# Altium schematic symbol library transistor.SchLib: 9 symbols
Pins are listed as number, name and electrical type; pins without a type are passive.

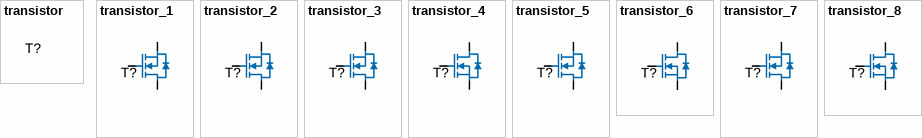
[diagram p0: symbols transistor to transistor_8]

## transistor
designator T?
Template

## transistor_1
designator T?
MOSFET, P-channel, -30V, -50A, 5.2mΩ, Power-Pak; Manufacturer 1: Vishay Siliconix; Manufacturer Part Number 1: SI7149ADP-T1-GE3; Supplier 1: Digi-Key; Supplier Part Number 1: SI7149ADP-T1-GE3CT-ND; Link: https://www.digikey.no/product-detail/en/vishay-siliconix/SI7149ADP-T1-GE3/SI7149ADP-T1-GE3CT-ND/4142092; Ids: -50A; Vds: -30V; Ron: 5.2mΩ
footprint SI7149ADP-T1-GE3
pins: D, G, S

## transistor_2
designator T?
MOSFET, P-channel, -20V, -22A, 6mΩ, Power-Pak; Manufacturer 1: Vishay Siliconix; Manufacturer Part Number 1: SISH615ADN-T1-GE3; Supplier 1: Digi-Key; Supplier Part Number 1: SISH615ADN-T1-GE3CT-ND; Link: https://www.digikey.no/product-detail/en/vishay-siliconix/SISH615ADN-T1-GE3/SISH615ADN-T1-GE3CT-ND/9695107; Ids: -22A; Vds: -20V; Ron: 6mΩ
footprint SISH615ADN-T1-GE3
pins: D, G, S

## transistor_3
designator T?
MOSFET, P-channel, -30V, -6A, 40mΩ, SOT32 Flat; Manufacturer 1: Toshiba Semiconductor and Storage; Manufacturer Part Number 1: SSM3J332R,LF; Supplier 1: Digi-Key; Supplier Part Number 1: SSM3J332RLFCT-ND; Link: https://www.digikey.no/product-detail/en/toshiba-semiconductor-and-storage/SSM3J332R-LF/SSM3J332RLFCT-ND/3522381; Ids: -6A; Vds: -30V; Ron: 40mΩ
footprint SSM3J332R,LF (SOTFL, 3-Leads, Body 2.90x2.40mm, Pitch 0.95mm, IPC Medium Density)
pins: D, G, S

## transistor_4
designator T?
MOSFET, N-channel, 50V, 500mA, 1.6Ω, SOT32 Flat; Manufacturer 1: Diodes Incorporated; Manufacturer Part Number 1: DMN53D0L-7; Supplier 1: Digi-Key; Supplier Part Number 1: DMN53D0L-7DICT-ND; Link: https://www.digikey.no/product-detail/en/diodes-incorporated/DMN53D0L-7/DMN53D0L-7DICT-ND/4935005; Ids: 500mA; Vds: 50V; Ron: 1.6Ω
footprint DMN53D0L-7 (SOT23, 3-Leads, Body 2.90x2.40mm, Pitch 0.92mm, IPC Medium Density)
pins: D, G, S

## transistor_5
designator T?
MOSFET, P-channel, -20V, -0.6A, 900mΩ, SOT32 Flat; Manufacturer 1: Diodes Incorporated; Manufacturer Part Number 1: DMP2004K-7; Ids: -6A; Vds: -30V; Ron: 40mΩ; Supplier 1: Digi-Key; Supplier Part Number 1: DMP2004KDITR-ND; Link: https://www.digikey.no/en/products/detail/diodes-incorporated/DMP2004K-7/1774201
footprint DMP2004K-7 (SOT23, 3-Leads, Body 2.90x2.40mm, Pitch 0.92mm, IPC Medium Density)
pins: D, G, S

## transistor_6
designator T?
MOSFET, N-channel, 60V, 115mA, 7.5Ω, SOT32; Manufacturer 1: Diodes Incorporated; Manufacturer Part Number 1: 2N7002W-7-F; Supplier 1: Digi-Key; Supplier Part Number 1: 2N7002W-FDITR-ND; Link: https://www.digikey.no/en/products/detail/diodes-incorporated/2N7002W-7-F/814962
footprint 2N7002W-7-F (SOT23, 3-Leads, Body 2.00x2.23mm, Pitch 0.65mm, IPC Medium Density)
pins: D, G, S

## transistor_7
designator T?
MOSFET, P-channel, -40V, -40A, 15mΩ, DPAK; Manufacturer 1: Alpha & Omega Semiconductor Inc.; Manufacturer Part Number 1: AOD4185; Supplier 1: Digi-Key; Supplier Part Number 1: 785-1222-6-ND; Link: https://www.digikey.no/en/products/detail/alpha-omega-semiconductor-inc/AOD4185/2353887; Ids: -40A; Vds: -40V; Ron: 15mΩ
footprint AOD4185
pins: D, G, S

## transistor_8
designator T?
MOSFET, N-channel, 55V, 2.1A, 160mΩ, SOT32; Manufacturer 1: Alpha & Omega Semiconductor Inc.; Manufacturer Part Number 1: AO3422; Supplier 1: Digi-Key; Supplier Part Number 1: 785-1015-6-ND; Link: https://www.digikey.no/en/products/detail/alpha-omega-semiconductor-inc/AO3422/1855787
footprint AO3422 (SOT23, 3-Leads, Body 3.10x3.00mm, Pitch 0.95mm, IPC Medium Density)
pins: D, G, S